# Altium integrated library SakuraInternet-sakura.io.IntLib: 1 symbol
Pins are listed as number, name and electrical type; pins without a type are passive.

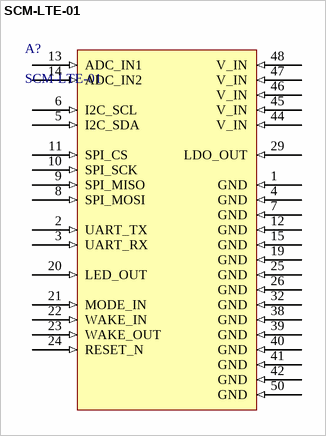
[diagram p0: symbol SCM-LTE-01]

## SCM-LTE-01
designator A?
Sakura Internet, sakura.io module SCM-LTE-01; ComponentLink1Description: Service Home Page; ComponentLink1URL: https://sakura.io/; ComponentLink2Description: Datasheet; ComponentLink2URL: https://sakura.io/developer/pdf/sakura_module_datasheet_latest.pdf
footprint SCM-LTE-01
pins: 1 GND (in), 2 UART_TX (in), 3 UART_RX (in), 4 GND (in), 5 I2C_SDA (in), 6 I2C_SCL (in), 7 GND (in), 8 SPI_MOSI (in), 9 SPI_MISO (in), 10 SPI_SCK (in), 11 SPI_CS (in), 12 GND (in), 13 ADC_IN1 (in), 14 ADC_IN2 (in), 15 GND (in), 19 GND (in), 20 LED_OUT (in), 21 MODE_IN (in), 22 WAKE_IN (in), 23 WAKE_OUT (in), 24 RESET_N (in), 25 GND (in), 26 GND (in), 29 LDO_OUT (in), 32 GND (in), 38 GND (in), 39 GND (in), 40 GND (in), 41 GND (in), 42 GND (in), 44 V_IN (in), 45 V_IN (in), 46 V_IN (in), 47 V_IN (in), 48 V_IN (in), 50 GND (in)